# Altium schematic symbol library Temperature Sensors.SchLib: 2 symbols
Pins are listed as number, name and electrical type; pins without a type are passive.

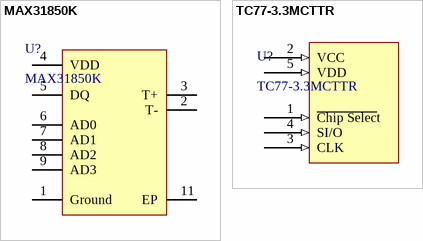
[diagram p0: symbols MAX31850K to TC77-3.3MCTTR]

## MAX31850K
designator U?
Temperature Sensor IC; Supplier 1: Mouser; Supplier 2: Farnell; Supplier Part Number 1: 700-MAX31850KATB+; Supplier Part Number 2: 2515619
footprint MAX31850 (QFN, 10-Leads, Body 4.00x3.00mm, Pitch 0.50mm, Thermal Pad 2.65x2.60mm, IPC Medium Density)
pins: 1 Ground, 2 T-, 3 T+, 4 VDD, 5 DQ, 6 AD0, 7 AD1, 8 AD2, 9 AD3, 11 EP

## TC77-3.3MCTTR
designator U?
SMD Temperature Sensor; +-1 degrees C; Supplier 1: Farnell; Supplier Part Number 1: 1605583
footprint SOT95P280X145-5N (SOT23, 5-Leads, Body 2.90x2.80mm, Pitch 0.95mm, IPC Medium Density)
pins: 1 ~{Chip Selec}t (in), 2 VCC (in), 3 CLK (in), 4 SI/O (in), 5 VDD (in)